# Altium schematic symbol library Fuse.SchLib: 1 symbol
Pins are listed as number, name and electrical type; pins without a type are passive.

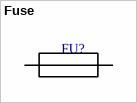
[diagram p0: symbol Fuse]

## Fuse
designator FU?  (value not drawn)
4 pads
footprint FUSE: FH-100 (5x20 mm) - duplicate
pins: 1, 2